# Altium schematic symbol library CON8_2ROW.SchLib: 1 symbol
Pins are listed as number, name and electrical type; pins without a type are passive.

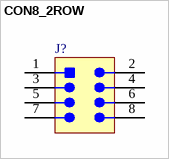
[diagram p0: symbol CON8_2ROW]

## CON8_2ROW
designator J?
pins: 1, 2, 3, 4, 5, 6, 7, 8